# Altium footprint library Supply Lines.PcbLib: 20 footprints (part 1 of 2)
Each footprint in its own frame and in the unit in brackets; x right, y up, seen from the top. Pads: shape width x height; smd on the part's side, far side on the other; paste and mask are expansions set on the pad; w line width, h text height; cw(c..) or ccw(c..) is an arc to the next point about the centre after c.
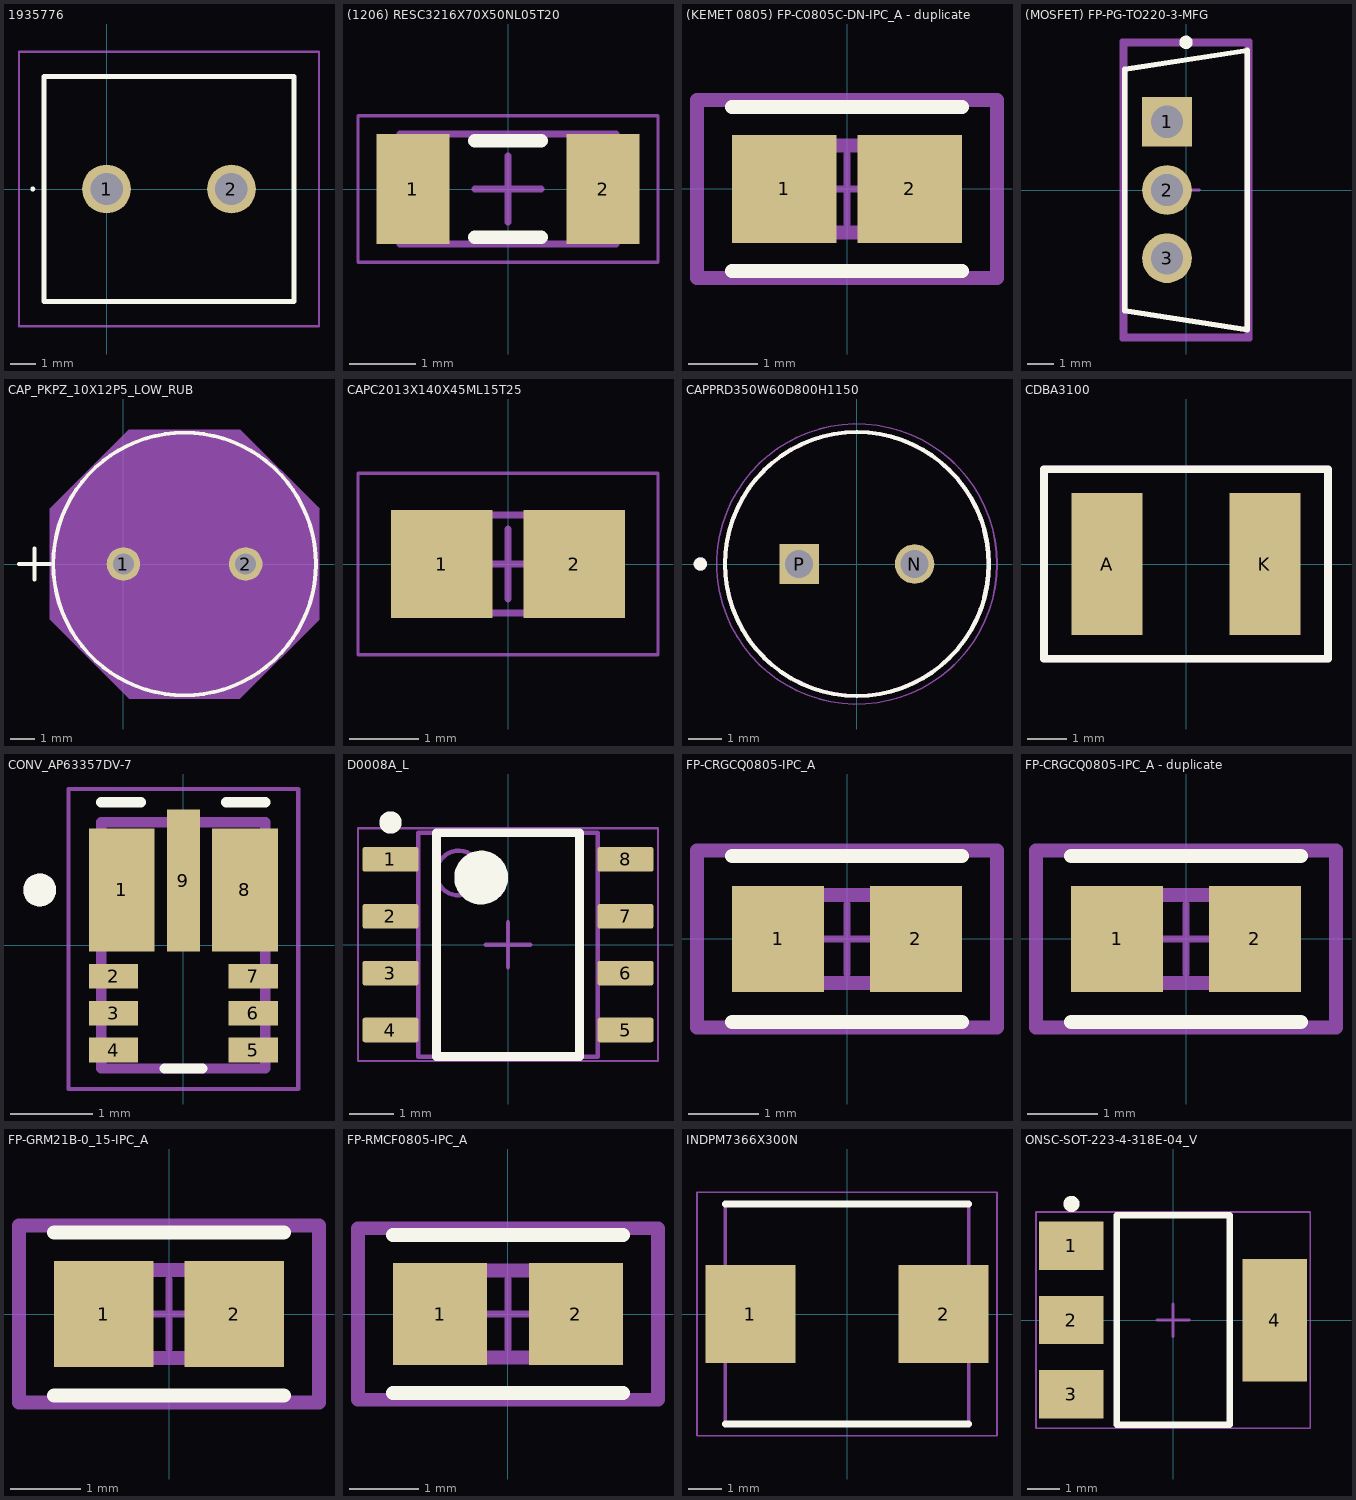
[diagram p0: the footprints below, top view; thin cyan lines are the x and y axes]

## 1935776 [mm]
pads (2):
  round 1.95 hole 1.3: 1(0,0) 2(5,0)
Top Overlay:
  lines w0.1: -3,0 ccw(c-2.95,0) -2.9,0 ccw(c-2.95,0) -3,0
  lines w0.2: -2.5,-4.5 -2.5,4.5 7.5,4.5 7.5,-4.5 -2.5,-4.5
Top Courtyard:
  lines w0.1: -2.5,-4.5 -2.5,4.5 7.5,4.5 7.5,-4.5 -2.5,-4.5
Mechanical 20:
  lines w0.1: -3.5,-5.5 -3.5,5.5 8.5,5.5 8.5,-5.5 -3.5,-5.5
3D body "1935776.stp": height 13.5, standoff -4.1, extent -2.534,-4.445 8.376,4.554

## (1206) RESC3216X70X50NL05T20 [mm] "Chip Resistor, 2-Leads, Body 3.20x1.60mm, IPC Medium Density"
height 0.7
pads (2):
  rect 1.1x1.65 smd: 1(-1.425,0) 2(1.425,0)
Top Overlay:
  lines w0.2: -0.5,-0.725 0.5,-0.725 ; -0.5,0.725 0.5,0.725
Top 3D Body:
  lines w0.1: -1.625,-0.825 -1.625,0.825 1.625,0.825 1.625,-0.825 -1.625,-0.825
Top Courtyard:
  lines w0.05: -2.25,-1.1 -2.25,1.1 2.25,1.1 2.25,-1.1 -2.25,-1.1
  lines w0.1: -0.5,0 0.5,0 ; 0,-0.5 0,0.5
3D body: height 0.7, standoff 0, extent -1.125,-0.825 1.125,0.825
3D body: height 0.7, standoff 0, extent -1.625,-0.825 -1.125,0.825
3D body: height 0.7, standoff 0, extent 1.125,-0.825 1.625,0.825

## (KEMET 0805) FP-C0805C-DN-IPC_A - duplicate [mm]
pads (2):
  rect 1.505x1.556 smd paste+0 mask+0: 1(-0.901,0) 2(0.901,0)
Top Overlay:
  lines w0.2: -1.653,-1.178 1.653,-1.178 ; -1.653,1.178 1.653,1.178
Top Assembly:
  lines w0.2: -2.153,-1.278 2.153,-1.278 2.153,1.278 -2.153,1.278 -2.153,-1.278
  text ".Designator" at 0,0.189 h1
Top 3D Body:
  lines w0.2: -1,-0.625 1,-0.625 1,0.625 -1,0.625 -1,-0.625
Top Courtyard:
  lines w0.2: -2.153,-1.278 2.153,-1.278 2.153,1.278 -2.153,1.278 -2.153,-1.278
Top Component Center:
  lines w0.1: -0.5,0 0.5,0 ; 0,-0.5 0,0.5
3D body "Cap_KEMET_C0805C472J3HAC_eec.STEP": height 0.25, standoff 0, extent -2.153,-1.278 2.153,1.278

## (MOSFET) FP-PG-TO220-3-MFG [mm]
pads (3):
  rect 1.85x1.85 hole 1.2 paste-2539.97 mask+0: 1(-0.705,2.54)
  round 1.85 hole 1.2 paste-2539.97 mask+0: 2(-0.705,0) 3(-0.705,-2.54)
Top Overlay:
  circle w0.25: c0,5.5 r0.125
  lines w0.2: -2.275,-4.5 2.275,-5.2 2.275,5.2 -2.275,4.5 -2.275,-4.5
Top Assembly:
  lines w0.2: -2.375,-5.55 2.375,-5.55 2.375,5.55 -2.375,5.55 -2.375,-5.55
  text ".Designator" at 0,0 h1
Top 3D Body:
  lines w0.2: -2.275,-5.45 2.275,-5.45 2.275,5.45 -2.275,5.45 -2.275,-5.45
Top Courtyard:
  lines w0.2: -2.375,-5.55 2.375,-5.55 2.375,5.55 -2.375,5.55 -2.375,-5.55
Top Component Center:
  lines w0.1: -0.5,0 0.5,0 ; 0,-0.5 0,0.5
3D body "Trans_Infineon_IRL2505PBF_eec.STEP": height 0.25, standoff 0, extent -2.375,-5.55 2.375,5.55

## CAP_PKPZ_10X12P5_LOW_RUB [mil]
pads (2):
  round 54 / inner round 60 / far side round 54 hole 34 paste-99999 mask+0: 1(0,0) 2(196.85,0)
Top Overlay:
  circle w6: c98.43,0 r211.5
  lines w6: -168.07,0 -118.07,0 ; -143.07,-25 -143.07,25
Top 3D Body:
  circle w0: c98.43,0 r206.5
  lines w1: -168.07,0 -118.07,0 ; -143.07,-25 -143.07,25
  text "RefDes2" at 10.93,-25 h50
Top Courtyard:
  region: -118.07,89.15 9.28,216.5 187.57,216.5 314.93,89.15 314.93,-89.15 187.57,-216.5 9.28,-216.5 -118.07,-89.15
  lines w1: -118.07,-89.15 9.28,-216.5 187.57,-216.5 314.93,-89.15 314.93,89.15 187.57,216.5 9.28,216.5 -118.07,89.15 -118.07,-89.15
3D body "CAP_PKPZ_10X12P5_LOW_RUB.step": height 551.61, standoff -172.01, extent -108.07,-206.02 305.88,206.02

## CAPC2013X140X45ML15T25 [mm] "Chip Capacitor, 2-Leads, Body 2.00x1.25mm, IPC Low Density"
height 1.4
pads (2):
  rect 1.45x1.55 smd: 1(-0.95,0) 2(0.95,0)
Top Assembly:
  text ".Designator" at -2.253,-0.226 h1
Top 3D Body:
  lines w0.1: -1.075,-0.7 -1.075,0.7 1.075,0.7 1.075,-0.7 -1.075,-0.7
Top Courtyard:
  lines w0.05: -2.15,-1.3 -2.15,1.3 2.15,1.3 2.15,-1.3 -2.15,-1.3
  lines w0.1: -0.5,0 0.5,0 ; 0,-0.5 0,0.5
3D body: height 1.4, standoff 0, extent -0.625,-0.7 0.625,0.7
3D body: height 1.4, standoff 0, extent -1.075,-0.7 -0.625,0.7
3D body: height 1.4, standoff 0, extent 0.625,-0.7 1.075,0.7

## CAPPRD350W60D800H1150 [mm]
pads (2):
  round 1.2 hole 0.85: N(1.75,0)
  rect 1.2x1.2 hole 0.85: P(-1.75,0)
Top Overlay:
  circle w0.127: c0,0 r4
  circle w0.2: c-4.75,0 r0.1
Top Assembly:
  text ".Designator" at -4.506,-0.452 h2
Top 3D Body:
  circle w0.127: c0,0 r4
  circle w0.2: c-4.75,0 r0.1
Top Courtyard:
  circle w0.05: c0,0 r4.25
3D body "step_temp.STEP": height 11.5, standoff -17, extent -4,-4 4,4

## CDBA3100 [mm]
pads (2):
  rect 1.8x3.6 smd: A(-2,0) K(2,0)
Top Overlay:
  lines w0.2: -3.6,-2.4 3.6,-2.4 3.6,2.4 -3.6,2.4 -3.6,-2.4
Top Assembly:
  lines w0.2: -3.6,-2.4 3.6,-2.4 3.6,2.4 -3.6,2.4 -3.6,-2.4
  text ".Designator" at -3.499,-0.233 h0.7
3D body "CDBA-G.step": height 2.34, standoff 0, extent -2.642,-1.397 2.642,1.397

## CONV_AP63357DV-7 [mm]
height 0.85
pads (9):
  rect 0.8x1.5 smd mask+0.05: 1(-0.75,0.675) 8(0.75,0.675)
  rect 0.6x0.3 smd mask+0.05: 2(-0.85,-0.375) 3(-0.85,-0.825) 4(-0.85,-1.275) 5(0.85,-1.275) 6(0.85,-0.825) 7(0.85,-0.375)
  rect 0.4x1.73 smd mask+0.05: 9(0,0.79)
Top Overlay:
  circle w0.2: c-1.75,0.675 r0.1
  lines w0.127: -1,1.745 -0.52,1.745 ; -0.23,-1.5 0.23,-1.5 ; 0.52,1.745 1,1.745
Top 3D Body:
  circle w0.2: c-1.75,0.675 r0.1
  lines w0.127: -1,-1.5 1,-1.5 1,1.5 -1,1.5 -1,-1.5
Top Courtyard:
  lines w0.05: -1.4,-1.75 -1.4,1.905 1.4,1.905 1.4,-1.75 -1.4,-1.75
3D body "step_temp.STEP": height 0.85, standoff 0, extent -1,-1.5 1,1.5

## D0008A_L [mm] "SOIC, 8-Leads, Body 5x4mm, Pitch 1.27mm, IPC High Density"
height 1.75
pads (8):
  rrect18% 1.25x0.55 smd: 1(-2.625,1.905) 2(-2.625,0.635) 3(-2.625,-0.635) 4(-2.625,-1.905) 5(2.625,-1.905) 6(2.625,-0.635) 7(2.625,0.635) 8(2.625,1.905)
Top Overlay:
  circle w0.25: c-2.625,2.73 r0.125
  circle w0.6: c-0.6,1.5 r0.3
  lines w0.2: -1.6,-2.5 -1.6,2.5 1.6,2.5 1.6,-2.5 -1.6,-2.5
Mechanical 1:
  text ".Designator" at -1.397,-0.254 h0.6
Top 3D Body:
  circle w0.1: c-1.1,1.6 r0.5
  lines w0.1: -2,-2.5 -2,2.5 2,2.5 2,-2.5 -2,-2.5
Top Courtyard:
  lines w0.05: -3.35,-2.6 -3.35,2.6 3.35,2.6 3.35,-2.6 -3.35,-2.6
  lines w0.1: -0.5,0 0.5,0 ; 0,-0.5 0,0.5
3D body "SOIC-8akaD0008AakaM08A.stp": height 1.63, standoff 0, extent -3,-2.45 3,2.45

## FP-CRGCQ0805-IPC_A [mm]
pads (2):
  rect 1.306x1.51 smd paste+0 mask+0: 1(-0.976,0) 2(0.976,0)
Top Overlay:
  lines w0.2: -1.629,-1.18 1.629,-1.18 ; -1.629,1.18 1.629,1.18
Top Assembly:
  lines w0.2: -2.129,-1.255 2.129,-1.255 2.129,1.255 -2.129,1.255 -2.129,-1.255
  text ".Designator" at 0,0.189 h1
Top 3D Body:
  lines w0.2: -1,-0.625 1,-0.625 1,0.625 -1,0.625 -1,-0.625
Top Courtyard:
  lines w0.2: -2.129,-1.255 2.129,-1.255 2.129,1.255 -2.129,1.255 -2.129,-1.255
Top Component Center:
  lines w0.1: -0.5,0 0.5,0 ; 0,-0.5 0,0.5
3D body "Res_TE_Connectivity_CRGCQ0805F180R_eec.STEP": height 0.25, standoff 0, extent -2.129,-1.255 2.129,1.255

## FP-CRGCQ0805-IPC_A - duplicate [mm]
pads (2):
  rect 1.306x1.51 smd paste+0 mask+0: 1(-0.976,0) 2(0.976,0)
Top Overlay:
  lines w0.2: -1.629,-1.18 1.629,-1.18 ; -1.629,1.18 1.629,1.18
Top Assembly:
  lines w0.2: -2.129,-1.255 2.129,-1.255 2.129,1.255 -2.129,1.255 -2.129,-1.255
  text ".Designator" at 0,0.189 h1
Top 3D Body:
  lines w0.2: -1,-0.625 1,-0.625 1,0.625 -1,0.625 -1,-0.625
Top Courtyard:
  lines w0.2: -2.129,-1.255 2.129,-1.255 2.129,1.255 -2.129,1.255 -2.129,-1.255
Top Component Center:
  lines w0.1: -0.5,0 0.5,0 ; 0,-0.5 0,0.5
3D body "Res_TE_Connectivity_CRGCQ0805F180R_eec.STEP": height 0.25, standoff 0, extent -2.129,-1.255 2.129,1.255

## FP-GRM21B-0_15-IPC_A [mm]
pads (2):
  rect 1.406x1.508 smd paste+0 mask+0: 1(-0.926,0) 2(0.926,0)
Top Overlay:
  lines w0.2: -1.629,-1.154 1.629,-1.154 ; -1.629,1.154 1.629,1.154
Top Assembly:
  lines w0.2: -2.129,-1.254 2.129,-1.254 2.129,1.254 -2.129,1.254 -2.129,-1.254
  text ".Designator" at 0,0.189 h1
Top 3D Body:
  lines w0.2: -1,-0.625 1,-0.625 1,0.625 -1,0.625 -1,-0.625
Top Courtyard:
  lines w0.2: -2.129,-1.254 2.129,-1.254 2.129,1.254 -2.129,1.254 -2.129,-1.254
Top Component Center:
  lines w0.1: -0.5,0 0.5,0 ; 0,-0.5 0,0.5
3D body "Cap_Murata_GRM21BC81C106KA73L_eec.STEP": height 0.25, standoff 0, extent -2.129,-1.254 2.129,1.254

## FP-RMCF0805-IPC_A [mm]
pads (2):
  rect 1.355x1.462 smd paste+0 mask+0: 1(-0.976,0) 2(0.976,0)
Top Overlay:
  lines w0.2: -1.653,-1.131 1.653,-1.131 ; -1.653,1.131 1.653,1.131
Top Assembly:
  lines w0.2: -2.153,-1.231 2.153,-1.231 2.153,1.231 -2.153,1.231 -2.153,-1.231
  text ".Designator" at 0,0.189 h1
Top 3D Body:
  lines w0.2: -1,-0.625 1,-0.625 1,0.625 -1,0.625 -1,-0.625
Top Courtyard:
  lines w0.2: -2.153,-1.231 2.153,-1.231 2.153,1.231 -2.153,1.231 -2.153,-1.231
Top Component Center:
  lines w0.1: -0.5,0 0.5,0 ; 0,-0.5 0,0.5
3D body "Res_Stackpole_Electronics_RMCF0805JT220K_eec.STEP": height 0.25, standoff 0, extent -2.153,-1.231 2.153,1.231

## INDPM7366X300N [mm]
pads (2):
  rect 2.7x2.95 smd: 1(-2.9,0) 2(2.9,0)
Top Overlay:
  lines w0.2: -3.65,-3.3 3.65,-3.3 ; -3.65,3.3 3.65,3.3
Top Courtyard:
  lines w0.1: -3.65,-3.3 3.65,-3.3 3.65,3.3 -3.65,3.3 -3.65,-3.3
Mechanical 20:
  lines w0.05: -4.5,-3.65 4.5,-3.65 4.5,3.65 -4.5,3.65 -4.5,-3.65
3D body "BMRA000606306R8MA1.stp": height 3, standoff 0, extent -3.65,-3.3 3.65,3.3

## ONSC-SOT-223-4-318E-04_V [mm] "SOT223, 4-Leads, Body 6.5x3.5mm, Pitch 2.3mm"
height 1.75
pads (4):
  rect 2x1.5 smd: 1(-3.15,2.3) 2(-3.15,0) 3(-3.15,-2.3)
  rect 2x3.8 smd: 4(3.15,0)
Top Overlay:
  circle w0.25: c-3.15,3.6 r0.125
  lines w0.2: -1.75,-3.25 1.75,-3.25 1.75,3.25 -1.75,3.25 -1.75,-3.2
Top 3D Body:
  lines w0.1: -1.75,-3.25 1.75,-3.25 1.75,3.25 -1.75,3.25 -1.75,-3.25
Top Courtyard:
  lines w0.05: -4.25,-3.35 -4.25,3.35 4.25,3.35 4.25,-3.35 -4.25,-3.35
  lines w0.1: -0.5,0 0.5,0 ; 0,-0.5 0,0.5
3D body: height 1.75, standoff 0.02, extent -1.75,-3.25 1.75,3.25